# EAGLE library part MICS-36 (library con-lumberg)
CONNECTOR
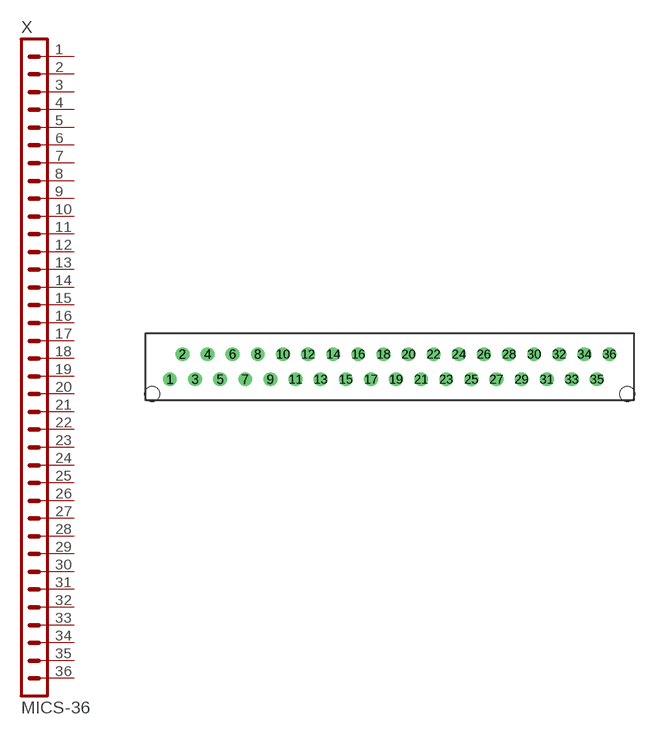
[diagram p12: symbol with the pads of MICS-36; footprint MICS-36]

Designator prefix X

## MICS-36 (OC_FARNELL: 871266; OC_NEWARK: unknown)  [MICS-36]
1  1  pas
2  2  pas
3  3  pas
4  4  pas
5  5  pas
6  6  pas
7  7  pas
8  8  pas
9  9  pas
10  10  pas
11  11  pas
12  12  pas
13  13  pas
14  14  pas
15  15  pas
16  16  pas
17  17  pas
18  18  pas
19  19  pas
20  20  pas
21  21  pas
22  22  pas
23  23  pas
24  24  pas
25  25  pas
26  26  pas
27  27  pas
28  28  pas
29  29  pas
30  30  pas
31  31  pas
32  32  pas
33  33  pas
34  34  pas
35  35  pas
36  36  pas

## Footprint MICS-36 (pad centres in mm)
CONNECTOR
drill 0.85 pad 1.397: 1 -22.225,-1.27; 2 -20.955,1.27; 3 -19.685,-1.27; 4 -18.415,1.27; 5 -17.145,-1.27; 6 -15.875,1.27; 7 -14.605,-1.27; 8 -13.335,1.27; 9 -12.065,-1.27; 10 -10.795,1.27; 11 -9.525,-1.27; 12 -8.255,1.27; 13 -6.985,-1.27; 14 -5.715,1.27; 15 -4.445,-1.27; 16 -3.175,1.27; 17 -1.905,-1.27; 18 -0.635,1.27; 19 0.635,-1.27; 20 1.905,1.27; 21 3.175,-1.27; 22 4.445,1.27; 23 5.715,-1.27; 24 6.985,1.27; 25 8.255,-1.27; 26 9.525,1.27; 27 10.795,-1.27; 28 12.065,1.27; 29 13.335,-1.27; 30 14.605,1.27; 31 15.875,-1.27; 32 17.145,1.27; 33 18.415,-1.27; 34 19.685,1.27; 35 20.955,-1.27; 36 22.225,1.27
hole 1.5 at 24.025,-2.75
hole 1.5 at -24.025,-2.75